# Altium footprint library 遥控器副板.PcbLib: 3 footprints
Each footprint in its own frame and in the unit in brackets; x right, y up, seen from the top. Pads: shape width x height; smd on the part's side, far side on the other; paste and mask are expansions set on the pad; w line width, h text height; cw(c..) or ccw(c..) is an arc to the next point about the centre after c.
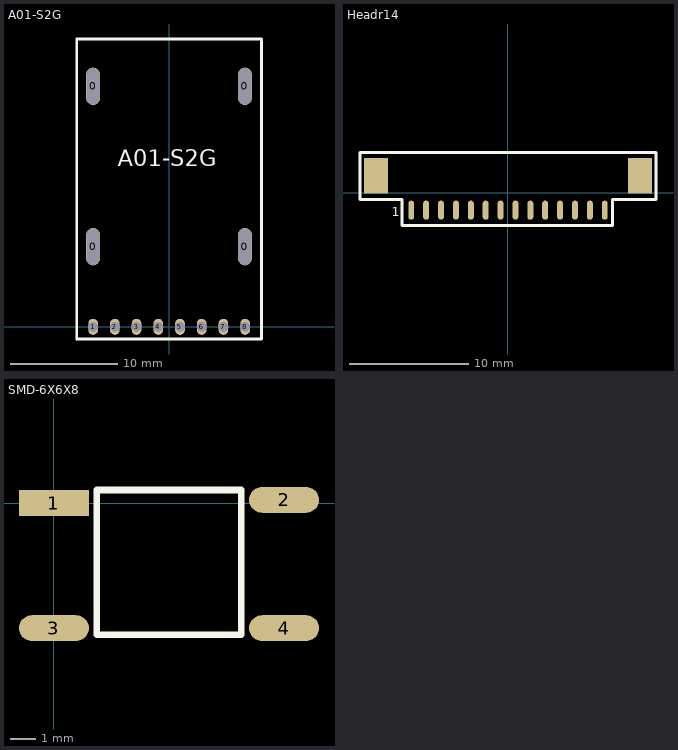
[diagram p0: the footprints below, top view; thin cyan lines are the x and y axes]

## A01-S2G [mm] "A01-S2G"
pads (12):
  oval 1.3x3.5 hole 1.2 slot 3.4 at 90 deg: 0(-7.112,7.5) 0(-7.112,22.5) 0(7.088,7.5) 0(7.088,22.5)
  oval 0.9x1.5 hole 0.9: 1(-7.112,0) 2(-5.08,0) 3(-3.048,0) 4(-1.016,0) 5(1.016,0) 6(3.048,0) 7(5.08,0) 8(7.112,0)
Top Overlay:
  lines w0.254: -8.636,26.857 -8.636,-1.143 8.636,-1.143 8.636,26.924 -8.636,26.924
  text "A01-S2G" at -4.801,15.011 h1.52

## Headr14 [mm] "14pin卧贴接插件"
pads (16):
  oval 0.5x1.6 smd: 1(-8.125,-1.45) 2(-6.875,-1.45) 3(-5.625,-1.45) 4(-4.375,-1.45) 5(-3.125,-1.45) 6(-1.875,-1.45) 7(-0.625,-1.45) 8(0.625,-1.45) 9(1.875,-1.45) 10(3.125,-1.45) 11(4.375,-1.45) 12(5.625,-1.45) 13(6.875,-1.45) 14(8.125,-1.45)
  rect 2x3 smd: ""(-11.1,1.45) ""(11.1,1.45)
Top Overlay:
  lines w0.254: -12.446,-0.561 -8.89,-0.561 -8.89,-2.72 8.763,-2.72 8.763,-0.561 12.446,-0.561 12.446,3.376 -12.446,3.376 -12.446,-0.561
  text "1" at -9.779,-1.958 h0.76

## SMD-6X6X8 [mm]
pads (4):
  rect 2.7x1 smd: 1(0,0)
  oval 2.7x1 smd: 2(8.89,0.127) 3(0,-4.826) 4(8.89,-4.826)
Top Overlay:
  lines w0.254: 1.651,-5.08 1.651,0.508 7.239,0.508 7.239,-5.08 1.651,-5.08
3D body "SMD-6X6X8.STEP": height 7.95, standoff -0.03, extent -0.127,-5.413 8.873,0.587